# EAGLE library part TL2575-ADJ (library EW_voltage_regulators)
310030270
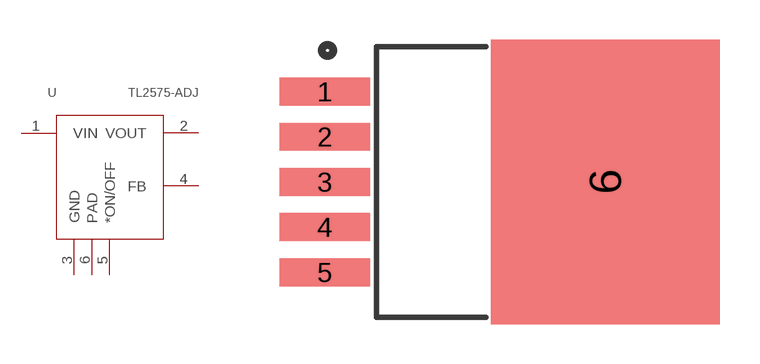
[diagram p1: symbol with the pads of TO170P1435X465-6N; footprint TO170P1435X465-6N]

Designator prefix U

## TL2575-ADJKTT  [TO170P1435X465-6N]
1  VIN
2  VOUT
3  GND
4  FB
5  *ON/OFF
6  PAD

## Footprint TO170P1435X465-6N (pad centres in mm)
smd 3.4 x 1.05: 1 -6.45,3.4; 2 -6.45,1.7; 3 -6.45,0; 4 -6.45,-1.7; 5 -6.45,-3.4
smd 8.6 x 10.7: 6 4.1,0